# Altium footprint library STM32单片机及常用原件.PcbLib: 227 footprints (part 11 of 15)
Each footprint in its own frame and in the unit in brackets; x right, y up, seen from the top. Pads: shape width x height; smd on the part's side, far side on the other; paste and mask are expansions set on the pad; w line width, h text height; cw(c..) or ccw(c..) is an arc to the next point about the centre after c.
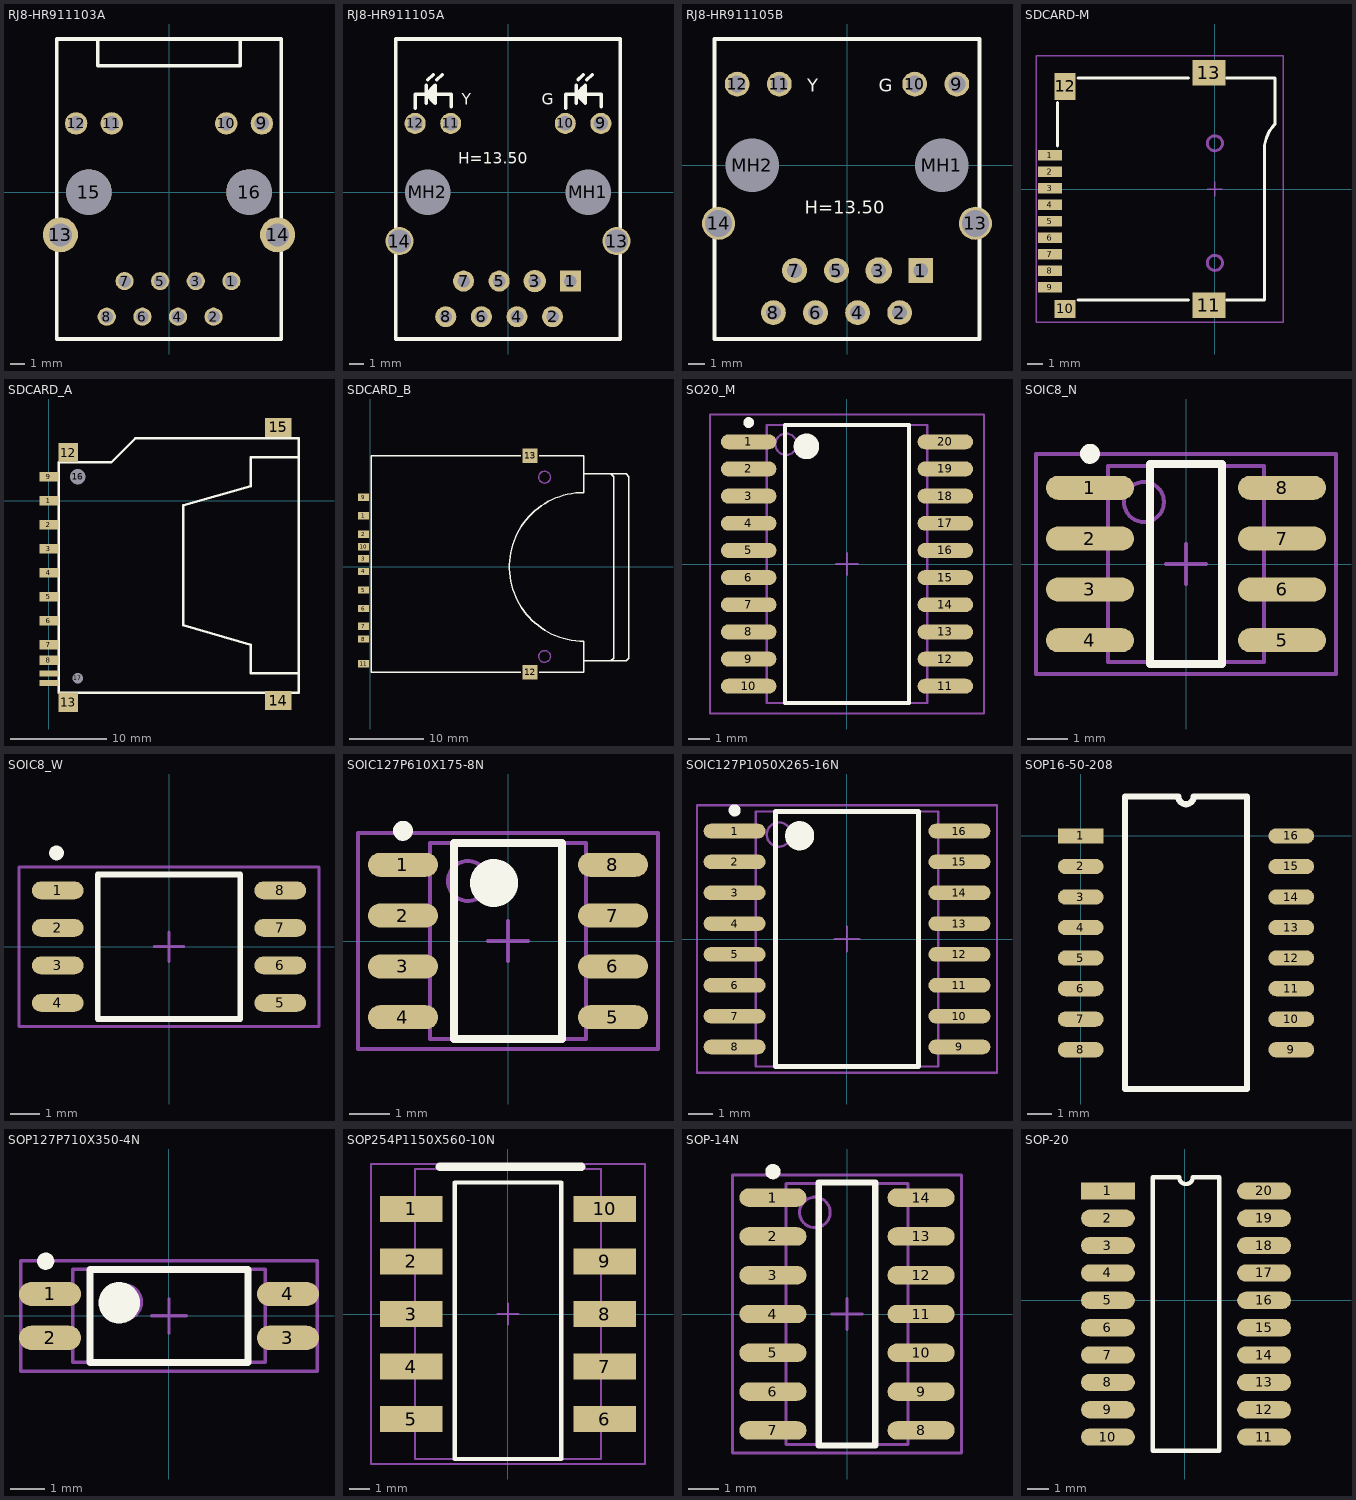
[diagram p10: the footprints below, top view; thin cyan lines are the x and y axes]

## RJ8-HR911103A [mm] "网络"
height 10
pads (16):
  round 1.3 hole 0.9: 1(4.45,-6.35) 2(3.18,-8.89) 3(1.91,-6.35) 4(0.64,-8.89) 5(-0.63,-6.35) 6(-1.9,-8.89) 7(-3.17,-6.35) 8(-4.44,-8.89)
  round 1.6 hole 1.02: 9(6.625,4.9) 10(4.085,4.9) 11(-4.085,4.9) 12(-6.625,4.9)
  round 2.5 hole 1.63: 13(-7.745,-3.05) 14(7.745,-3.05)
  round 3.251 hole 3.251: 15(-5.715,0) 16(5.715,0)
Top Overlay:
  lines w0.254: -5.08,10.795 -5.08,9.017 5.08,9.017 5.08,10.795 ; -8,-10.48 -8,10.92 8,10.92 8,-10.48 -8,-10.48

## RJ8-HR911105A [mm]
height 14.8
pads (16):
  rect 1.5x1.5 hole 0.9: 1(4.45,-6.35)
  round 1.5 hole 0.9: 2(3.18,-8.89) 4(0.64,-8.89) 5(-0.63,-6.35) 6(-1.9,-8.89) 7(-3.17,-6.35) 8(-4.44,-8.89)
  round 1.6 hole 0.9: 3(1.91,-6.35)
  round 1.5 hole 1.02: 9(6.625,4.9) 10(4.085,4.9) 11(-4.085,4.9) 12(-6.625,4.9)
  round 2 hole 1.63: 13(7.745,-3.5) 14(-7.745,-3.5)
  round 2.95 hole 3.25 unplated: MH1(5.715,0) MH2(-5.715,0)
Top Overlay:
  lines w0.25: -6.604,5.969 -6.604,6.985 -4.064,6.985 -4.064,6.096 ; -5.842,6.35 -5.842,7.62 ; -5.715,8.001 -5.334,8.382 ; -5.434,6.592 -5.434,7.393 ; -5.08,8.001 -4.699,8.382 ; 4.106,5.969 4.106,6.985 6.646,6.985 6.646,6.096 ; 4.868,6.35 4.868,7.62 ; 4.995,8.001 5.376,8.382 ; 5.276,6.592 5.276,7.393 ; 5.63,8.001 6.011,8.382 ; -8,-10.48 8,-10.48 8,10.92 -8,10.92 -8,-10.48 ; -5.842,6.985 -5.207,6.35 -5.207,7.62 -5.842,6.985 ; 4.868,6.985 5.503,6.35 5.503,7.62 4.868,6.985
  text "H=13.50" at -3.556,2.032 h0.8
  text "Y" at -3.302,6.223 h0.8
  text "G" at 2.413,6.223 h0.8

## RJ8-HR911105B [mm]
height 14.8
pads (16):
  rect 1.5x1.5 hole 0.9: 1(4.45,-6.35)
  round 1.5 hole 0.9: 2(3.18,-8.89) 4(0.64,-8.89) 5(-0.63,-6.35) 6(-1.9,-8.89) 7(-3.17,-6.35) 8(-4.44,-8.89)
  round 1.6 hole 0.9: 3(1.91,-6.35)
  round 1.5 hole 1.02: 9(6.625,4.9) 10(4.085,4.9) 11(-4.085,4.9) 12(-6.625,4.9)
  round 2 hole 1.63: 13(7.745,-3.5) 14(-7.745,-3.5)
  round 2.95 hole 3.25 unplated: MH1(5.715,0) MH2(-5.715,0)
Top Overlay:
  lines w0.25: -8,-10.48 -8,7.62 8,7.62 8,-10.48 -8,-10.48
  text "G" at 1.905,4.445 h0.8
  text "Y" at -2.413,4.445 h0.8
  text "H=13.50" at -2.54,-2.921 h0.8

## SDCARD-M [mm] "TF卡"
height 1.5
pads (13):
  rect 1.6x0.7 smd: 1(-11.008,2.25) 2(-11.008,1.15) 3(-11.008,0.05) 4(-11.008,-1.05) 5(-11.008,-2.15) 6(-11.008,-3.25) 7(-11.008,-4.35) 8(-11.008,-5.45) 9(-11.008,-6.55)
  rect 1.4x1.2 smd: 10(-10,-8.004)
  rect 2.2x1.7 smd: 11(-0.4,-7.75) 13(-0.4,7.75)
  rect 1.4x1.8 smd: 12(-10,6.85)
Top Overlay:
  lines w0.2: -10.5,2.88 -10.5,5.756 ; -9.144,-7.4 -1.778,-7.4 ; -9.144,7.4 -1.778,7.4 ; 0.762,-7.4 3.3,-7.4 3.3,1.016 ; 0.762,7.4 4,7.4 4,4.318 ccw(c5.69,2.628) 3.3,2.628 3.3,0.762
Mechanical 1:
  circle w0.2: c0,-4.93 r0.5
  circle w0.2: c0,3.05 r0.5
Mechanical 15:
  lines w0.1: -0.5,0 0.5,0 ; 0,-0.5 0,0.5 ; -11.938,-8.89 4.572,-8.89 4.572,8.89 -11.938,8.89 -11.938,-8.89

## SDCARD_A [mm] "SD卡不自弹"
pads (17):
  rect 2x1 smd: 1(0,0) 2(0,-2.5) 3(0,-5) 4(0,-7.5) 5(0,-10) 6(0,-12.5) 7(0,-15) 8(0,-16.625) 9(0,2.5)
  rect 2x0.6 smd: 10(0,-19) 11(0,-18)
  rect 2x2 smd: 12(2,5) 13(2,-21)
  rect 2.8x2 smd: 14(23.876,-20.828) 15(23.876,7.62)
  round 1.5 hole 1.6: 16(3,2.5)
  round 1 hole 1.1: 17(3,-18.5)
Top Overlay:
  lines w0.254: 26,-18 21,-18 21,-15 14,-13 14,-0.5 21,1.5 21,4.5 26,4.5 ; 1,-20 1,4 6.5,4 9,6.5 26,6.5 26,-20 1,-20

## SDCARD_B [mm] "SD卡自弹"
pads (13):
  rect 1.5x1 smd: 1(-0.889,6.88) 2(-0.889,4.38) 3(-0.889,1.08) 4(-0.889,-0.63) 5(-0.889,-3.13) 6(-0.889,-5.63) 7(-0.889,-8.05) 8(-0.889,-9.75) 9(-0.889,9.38) 10(-0.889,2.73) 11(-0.889,-13.1)
  rect 2x2 smd: 12(21.59,-14.224) 13(21.59,14.986)
Top Overlay:
  lines w0.2: 20.32,-14.224 0.127,-14.224 0.127,0 0.127,14.986 20.32,14.986 ; 22.86,-14.224 28.829,-14.224 28.829,-10.033 cw(c28.829,0) 28.829,10.033 28.829,14.986 22.86,14.986 ; 28.829,-12.7 32.893,-12.7 34.544,-12.7 34.925,-12.319 34.925,12.192 34.544,12.573 32.893,12.573 28.829,12.573 ; 32.512,-12.7 32.893,-12.319 32.893,12.192 32.512,12.573
Mechanical 1:
  circle w0.2: c23.55,12.1 r0.8
  circle w0.2: c23.55,-12.1 r0.8

## SO20_M [mm] "SOIC, 20-Leads, Body 12.8x7.5mm, Pitch 1.27mm, IPC Low Density"
height 2.65
pads (20):
  oval 2.6x0.7 smd: 1(-4.6,5.715) 2(-4.6,4.445) 3(-4.6,3.175) 4(-4.6,1.905) 5(-4.6,0.635) 6(-4.6,-0.635) 7(-4.6,-1.905) 8(-4.6,-3.175) 9(-4.6,-4.445) 10(-4.6,-5.715) 11(4.6,-5.715) 12(4.6,-4.445) 13(4.6,-3.175) 14(4.6,-1.905) 15(4.6,-0.635) 16(4.6,0.635) 17(4.6,1.905) 18(4.6,3.175) 19(4.6,4.445) 20(4.6,5.715)
Top Overlay:
  circle w0.6: c-1.9,5.5 r0.3
  circle w0.25: c-4.6,6.615 r0.125
  lines w0.2: -2.9,-6.5 2.9,-6.5 2.9,6.5 -2.9,6.5 -2.9,-6.5
Mechanical 13:
  circle w0.1: c-2.85,5.6 r0.5
  lines w0.1: -3.75,-6.5 3.75,-6.5 3.75,6.5 -3.75,6.5 -3.75,-6.5
Mechanical 15:
  lines w0.1: -0.5,0 0.5,0 ; 0,-0.5 0,0.5 ; -6.4,-7 6.4,-7 6.4,7 -6.4,7 -6.4,-7
3D body: height 2.65, standoff 0, extent -3.75,-6.5 3.75,6.5

## SOIC8_N [mm] "8-Pin Small Outline Integrated Circuit Package (SOIC8), IPC Medium Density"
height 1.75
pads (8):
  oval 2.2x0.6 smd: 1(-2.4,1.905) 2(-2.4,0.635) 3(-2.4,-0.635) 4(-2.4,-1.905) 5(2.4,-1.905) 6(2.4,-0.635) 7(2.4,0.635) 8(2.4,1.905)
Top Overlay:
  circle w0.25: c-2.4,2.755 r0.125
  lines w0.2: -0.9,-2.5 0.9,-2.5 0.9,2.5 -0.9,2.5 -0.9,-2.5
Mechanical 13:
  circle w0.1: c-1.05,1.55 r0.5
  lines w0.1: -1.95,-2.45 1.95,-2.45 1.95,2.45 -1.95,2.45 -1.95,-2.45
Mechanical 15:
  lines w0.1: -0.5,0 0.5,0 ; 0,-0.5 0,0.5 ; -3.75,-2.75 3.75,-2.75 3.75,2.75 -3.75,2.75 -3.75,-2.75
3D body: height 1.75, standoff 0, extent -1.95,-2.45 1.95,2.45

## SOIC8_W [mm] "SPI_FLASH"
height 1.75
pads (8):
  oval 1.75x0.6 smd: 1(-3.768,1.905) 2(-3.768,0.635) 3(-3.768,-0.635) 4(-3.768,-1.905) 5(3.768,-1.905) 6(3.768,-0.635) 7(3.768,0.635) 8(3.768,1.905)
Top Overlay:
  circle w0.25: c-3.808,3.175 r0.125
  lines w0.2: -2.413,-2.45 -2.413,2.45 2.413,2.45 2.413,-2.45 -2.413,-2.45
Mechanical 15:
  lines w0.1: -0.5,0 0.5,0 ; 0,-0.5 0,0.5 ; -5.08,-2.7 -5.08,2.7 5.08,2.7 5.08,-2.7 -5.08,-2.7

## SOIC127P610X175-8N [mm] "ACS712"
height 1.75
pads (8):
  oval 1.75x0.6 smd: 1(-2.625,1.905) 2(-2.625,0.635) 3(-2.625,-0.635) 4(-2.625,-1.905) 5(2.625,-1.905) 6(2.625,-0.635) 7(2.625,0.635) 8(2.625,1.905)
Top Overlay:
  circle w0.6: c-0.35,1.45 r0.3
  circle w0.25: c-2.625,2.755 r0.125
  lines w0.2: -1.35,-2.45 1.35,-2.45 1.35,2.45 -1.35,2.45 -1.35,-2.45
Mechanical 13:
  circle w0.1: c-1,1.5 r0.5
  lines w0.1: -1.95,-2.45 1.95,-2.45 1.95,2.45 -1.95,2.45 -1.95,-2.45
Mechanical 15:
  lines w0.1: -0.5,0 0.5,0 ; 0,-0.5 0,0.5 ; -3.75,-2.7 3.75,-2.7 3.75,2.7 -3.75,2.7 -3.75,-2.7
3D body: height 1, standoff 0.1, extent -1.95,-2.45 1.95,2.45

## SOIC127P1050X265-16N [mm] "SOIC SMB460"
height 2.65
pads (16):
  oval 2.55x0.6 smd: 1(-4.625,4.445) 2(-4.625,3.175) 3(-4.625,1.905) 4(-4.625,0.635) 5(-4.625,-0.635) 6(-4.625,-1.905) 7(-4.625,-3.175) 8(-4.625,-4.445) 9(4.625,-4.445) 10(4.625,-3.175) 11(4.625,-1.905) 12(4.625,-0.635) 13(4.625,0.635) 14(4.625,1.905) 15(4.625,3.175) 16(4.625,4.445)
Top Overlay:
  circle w0.6: c-1.95,4.25 r0.3
  circle w0.25: c-4.625,5.295 r0.125
  lines w0.2: -2.95,-5.25 2.95,-5.25 2.95,5.25 -2.95,5.25 -2.95,-5.25
Mechanical 13:
  circle w0.1: c-2.8,4.3 r0.5
  lines w0.1: -3.75,-5.25 3.75,-5.25 3.75,5.25 -3.75,5.25 -3.75,-5.25
Mechanical 15:
  lines w0.1: -0.5,0 0.5,0 ; 0,-0.5 0,0.5 ; -6.175,-5.5 6.175,-5.5 6.175,5.5 -6.175,5.5 -6.175,-5.5
3D body: height 2.65, standoff 0.1, extent -3.75,-5.25 3.75,5.25

## SOP16-50-208 [mil]
height 196.85
pads (16):
  rect 75x25 smd: 1(0,0)
  oval 75x25 smd: 2(0,-50) 3(0,-100) 4(0,-150) 5(0,-200) 6(0,-250) 7(0,-300) 8(0,-350) 9(345,-350) 10(345,-300) 11(345,-250) 12(345,-200) 13(345,-150) 14(345,-100) 15(345,-50) 16(345,0)
Top Overlay:
  lines w10: 72.5,-414.37 272.5,-414.37 272.5,64.37 185,64.37 cw(c172.5,64.37) 160,64.37 72.5,64.37 72.5,-414.37

## SOP127P710X350-4N [mm] "SOP, 4-Leads, Body 2.7x4.5mm (max), Pitch 1.27mm, IPC Medium Density"
height 3.5
pads (4):
  oval 1.8x0.7 smd: 1(-3.448,0.635) 2(-3.448,-0.635) 3(3.448,-0.635) 4(3.448,0.635)
Top Overlay:
  circle w0.6: c-1.443,0.381 r0.3
  circle w0.25: c-3.575,1.585 r0.125
  lines w0.2: -2.286,-1.35 2.286,-1.35 2.286,1.35 -2.286,1.35 -2.286,-1.35
Mechanical 13:
  circle w0.1: c-1.3,0.4 r0.5
  lines w0.1: -2.794,-1.35 2.794,-1.35 2.794,1.35 -2.794,1.35 -2.794,-1.35
Mechanical 15:
  lines w0.1: -0.5,0 0.5,0 ; 0,-0.5 0,0.5 ; -4.3,-1.6 4.3,-1.6 4.3,1.6 -4.3,1.6 -4.3,-1.6
3D body: height 3.5, standoff 0.25, extent -2.758,-1.35 2.794,1.35

## SOP254P1150X560-10N [mm] "双继电器"
height 5.6
pads (10):
  rect 3x1.25 smd: 1(-4.675,5.08) 2(-4.675,2.54) 3(-4.675,0) 4(-4.675,-2.54) 5(-4.675,-5.08) 6(4.675,-5.08) 7(4.675,-2.54) 8(4.675,0) 9(4.675,2.54) 10(4.675,5.08)
Top Overlay:
  lines w0.2: -2.575,-7 -2.575,6.35 2.575,6.35 2.575,-7 -2.575,-7
  lines w0.4: -3.302,7.112 3.556,7.112
Mechanical 13:
  lines w0.1: -4.5,-7 -4.5,7 4.5,7 4.5,-7 -4.5,-7
Mechanical 15:
  lines w0.1: -0.5,0 0.5,0 ; 0,-0.5 0,0.5 ; -6.625,-7.25 -6.625,7.25 6.625,7.25 6.625,-7.25 -6.625,-7.25
3D body: height 5.6, standoff 0.25, extent -4.5,-7 4.5,7

## SOP-14N [mm] "SOP, 14-Leads,"
height 1.75
pads (14):
  oval 2.2x0.6 smd: 1(-2.425,3.81) 2(-2.425,2.54) 3(-2.425,1.27) 4(-2.425,0) 5(-2.425,-1.27) 6(-2.425,-2.54) 7(-2.425,-3.81) 8(2.425,-3.81) 9(2.425,-2.54) 10(2.425,-1.27) 11(2.425,0) 12(2.425,1.27) 13(2.425,2.54) 14(2.425,3.81)
Top Overlay:
  circle w0.25: c-2.425,4.66 r0.125
  lines w0.2: -0.925,-4.3 -0.925,4.3 0.925,4.3 0.925,-4.3 -0.925,-4.3
Mechanical 13:
  circle w0.1: c-1.05,3.325 r0.5
  lines w0.1: -2,-4.275 -2,4.275 2,4.275 2,-4.275 -2,-4.275
Mechanical 15:
  lines w0.1: -0.5,0 0.5,0 ; 0,-0.5 0,0.5 ; -3.75,-4.55 -3.75,4.55 3.75,4.55 3.75,-4.55 -3.75,-4.55
3D body: height 1.75, standoff 0.2, extent -2,-4.275 2,4.275

## SOP-20 [mm] "74ls244"
height 2.032
pads (20):
  rect 2.5x0.8 smd: 1(-3.556,5.08)
  oval 2.5x0.8 smd: 2(-3.556,3.81) 3(-3.556,2.54) 4(-3.556,1.27) 5(-3.556,0) 6(-3.556,-1.27) 7(-3.556,-2.54) 8(-3.556,-3.81) 9(-3.556,-5.08) 10(-3.556,-6.35) 11(3.694,-6.35) 12(3.694,-5.08) 13(3.694,-3.81) 14(3.694,-2.54) 15(3.694,-1.27) 16(3.694,0) 17(3.694,1.27) 18(3.694,2.54) 19(3.694,3.81) 20(3.694,5.08)
Top Overlay:
  lines w0.2: -1.471,-6.985 1.609,-6.985 1.609,5.715 0.386,5.715 cw(c0.069,5.715) -0.249,5.715 -1.471,5.715 -1.471,-6.985